# Altium schematic symbol library sme-pcb-energysolution-s01.SCHLIB: 41 symbols
Pins are listed as number, name and electrical type; pins without a type are passive.

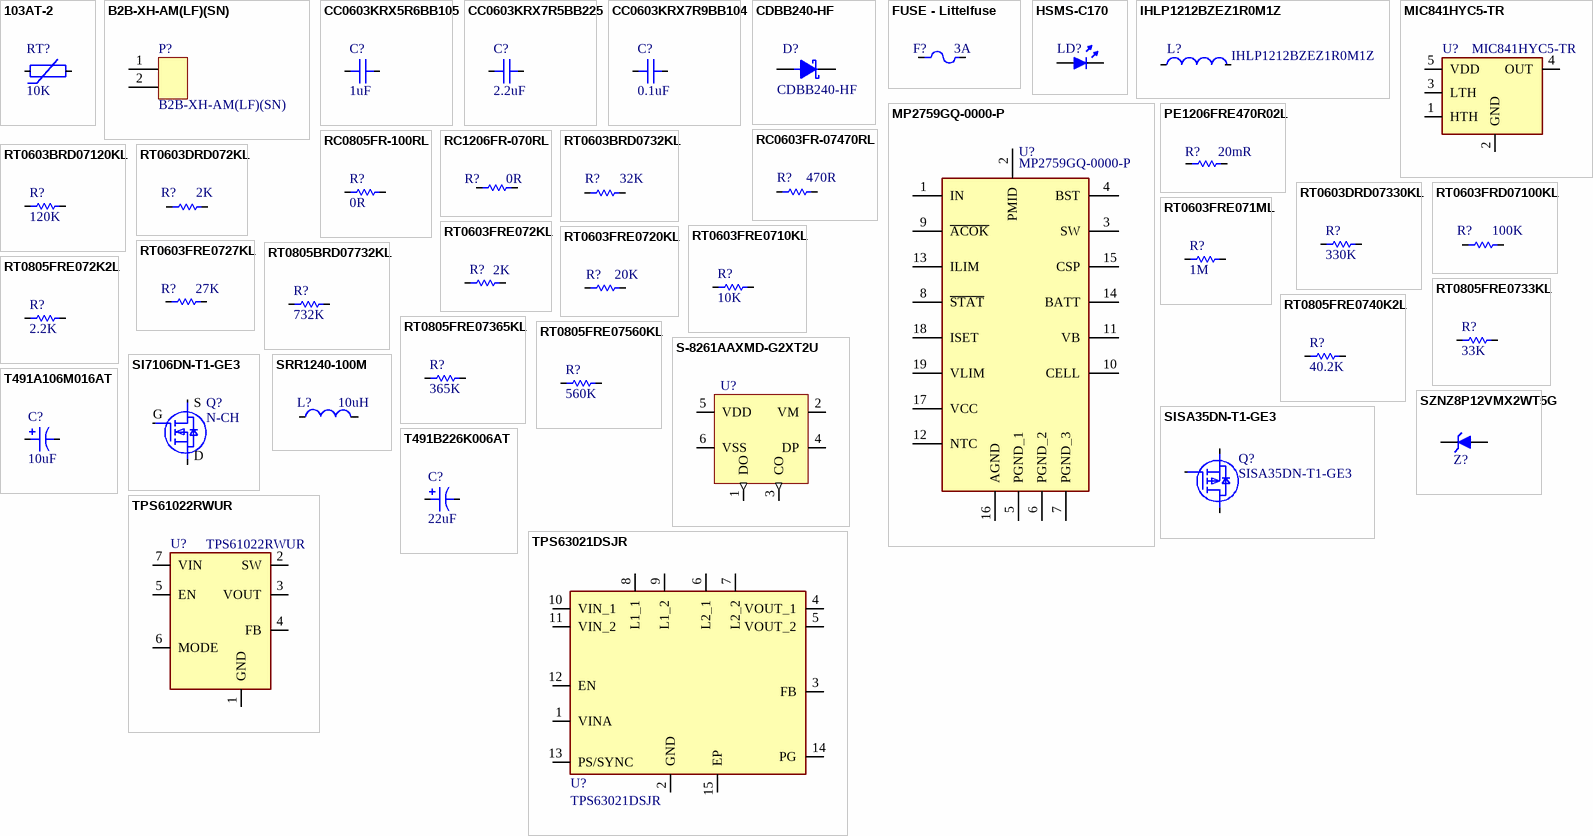
[diagram p0: symbols 103AT-2 to TPS63021DSJR]

## 103AT-2
designator RT?  Resistance: 10K  (hidden comment: 103AT-2)
NTC Thermistors 10kohm 1%; Manufacturer: Semitec; Package: 2 Pos; Type: thru-hole; Manufacturer Part Number: 103AT-2
footprint 103AT2
pins: 1, 2

## B2B-XH-AM(LF)(SN)
designator P?
CONN HEADER VERT 2POS 2.5MM
footprint 2Pin JST XH-2.54mm
pins: 1, 2

## CC0603KRX5R6BB105
designator C?  Capacitance: 1uF  (hidden comment: CC0603KRX5R6BB105)
Multilayer Ceramic Capacitors MLCC - SMD/SMT 10V 1uF X5R 0603 10% HI CV; Manufacturer: Yageo Group; Type: SMD; Package: 0603; Manufacturer Part Number: CC0603KRX5R6BB105
footprint C0603
pins: 1, 2

## CC0603KRX7R5BB225
designator C?  Capacitance: 2.2uF  (hidden comment: CC0603KRX7R5BB225)
Multilayer Ceramic Capacitors MLCC - SMD/SMT 6.3V 2.2uF X7R 0603 10% HI CV
footprint C0603
pins: 1, 2

## CC0603KRX7R9BB104
designator C?  Capacitance: 0.1uF  (hidden comment: CC0603KRX7R9BB104)
Multilayer Ceramic Capacitors MLCC - SMD/SMT 50 V 0.1uF X7R 0603 10%; Manufacturer: Yageo Group; Type: SMD; Package: 0603; Manufacturer Part Number: CC0603KRX7R9BB104
footprint C0603
pins: 1, 2

## CDBB240-HF
designator D?
Schottky Diode; Manufacturer_Name: Comchip Technology; Manufacturer: Comchip; Type: SMD; Datasheet Link: https://datasheet.datasheetarchive.com/originals/distributors/DKDS41/DSANUWW0021461.pdf; Height: 3.2mm; Manufacturer_Part_Number: CDBB240-HF; Mouser Part Number: 750-CDBB240-HF; Mouser Price/Stock: https://www.mouser.co.uk/ProductDetail/Comchip-Technology/CDBB240-HF?qs=%252BiOMRfgENTHvuVH5OF%252BwbA%3D%3D; Arrow Part Number: CDBB240-HF; Arrow Price/Stock: https://www.arrow.com/en/products/cdbb240-hf/comchip-technology?region=nac; Package: DO-214AA-2; Manufacturer Part Number: CDBB240-HF
footprint DO-214AA-2
pins: 1 A, 2 K

## FUSE - Littelfuse
designator F?  Fuse value: 3A  (hidden comment: FUSE - Littelfuse)
LITTELFUSE WICKMANN - 64600001003 - FUSE HOLDER, 5 X 20MM, PCB MOUNT; Material: Tin; Body Material: Polyamide; Color: Black; Illumination Type: Illuminated; Number of Circuits: 1; Voltage: 250V; Fuse Current: 6.3A; Type: thru-hole; Supplier 1: Digi-Key; Supplier Part Number 1: WK6244-ND; Manufacturer: Littelfuse Wickmann; Manufacturer Part Number: 64600001003; RoHS: Yes; Category: Fuse Holders; Stock 1: 1999; Pricing 1: 1=0.84000, 5=0.81200, 10=0.76000, 50=0.62880, 100=0.52400, 250=0.51092, 500=0.43230, 1000=0.37990, 5000=0.34060 (USD); Mount: Horizontal,PCB; Number of Pins: 2; Min Operating Temperature: -25°C; Max Operating Temperature: 70°C; Termination: PC Pin; Voltage Rating (DC): 250V; Voltage Rating (AC): 250V; Current Rating: 6.3A; Package Quantity: 1000; Voltage Rating: 250V; Number of Poles: 1; Packaging: Bulk; Length: 25.8mm; Depth: 5.5mm; Width: 12mm; Flammability Rating: UL94 V-1; REACH SVHC: Unknown; Lead Free: Lead Free; ComponentLink1URL: https://datasheet.ciiva.com/14119/gqlittelfuse-sicherungshalter-646-en-14119833.pdf?src-supplier=Distrelec; ComponentLink1Description: https://datasheet.ciiva.com/14119/gqlittelfuse-sicherungshalter-646-en-14119833.pdf?src-supplier=Distrelec; ComponentLink2URL: https://datasheet.ciiva.com/25620/0900766b81196eda-25620105.pdf?src-supplier=RSComponents; ComponentLink2Description: https://datasheet.ciiva.com/25620/0900766b81196eda-25620105.pdf?src-supplier=RSComponents; ComponentLink3URL: https://datasheet.ciiva.com/23593/43388-23593468.pdf?src-supplier=Newark; ComponentLink3Description: https://datasheet.ciiva.com/23593/43388-23593468.pdf?src-supplier=Newark; ComponentLink4URL: https://datasheet.ciiva.com/1270/1480080-1270114.pdf?src-supplier=Element14; ComponentLink4Description: https://datasheet.ciiva.com/1270/1480080-1270114.pdf?src-supplier=Element14; ComponentLink5URL: https://datasheet.ciiva.com/4480/646-648-640-lf-050901-4480295.pdf?src-supplier=Mouser; ComponentLink5Description: https://datasheet.ciiva.com/4480/646-648-640-lf-050901-4480295.pdf?src-supplier=Mouser; ComponentLink6URL: https://datasheet.ciiva.com/7660/646-648-640-lf-050901-7660727.pdf?src-supplier=Element14; ComponentLink6Description: https://datasheet.ciiva.com/7660/646-648-640-lf-050901-7660727.pdf?src-supplier=Element14; ComponentLink7URL: https://datasheet.ciiva.com/295/646-648-640-lf-050901-295754.pdf?src-supplier=Digi-Key; ComponentLink7Description: https://datasheet.ciiva.com/295/646-648-640-lf-050901-295754.pdf?src-supplier=Digi-Key; ComponentLink8URL: https://datasheet.ciiva.com/15187/getdatasheetpartid-57320-15187869.pdf?src-supplier=Verical; ComponentLink8Description: https://datasheet.ciiva.com/15187/getdatasheetpartid-57320-15187869.pdf?src-supplier=Verical; Package: 2 Pos
footprint Fuse 22.7mm - 2 Hole
pins: 1, 2

## HSMS-C170
designator LD?  (value not drawn)
Single Color LEDs Red Diffused 626nm 10mcd; Manufacturer: Broadcom; Type: SMD; Package: HSMS-C170; Manufacturer Part Number: HSMS-C170
footprint LED_0805_WHITE
pins: 1 A, 2 K

## IHLP1212BZEZ1R0M1Z
designator L?
1 H Shielded Molded Inductor 8.4 A 20mOhm Max 1212 (3030 Metric); Manufacturer_Name: Vishay; Geometry.Height: 2mm; Mouser Part Number: *; Mouser Price/Stock: *; Manufacturer_Part_Number: IHLP1212BZEZ1R0M1Z; Datasheet Link: https://www.vishay.com/docs/34671/ihlp1212-ez-1z.pdf
footprint INDPM3030X200N
pins: 1, 2

## MIC841HYC5-TR
designator U?
Microchip MIC841HYC5-TR Dual Comparator, Open Drain, Push-Pull O/P, 12us 1.5  5.5 V 5-Pin SC-70; Geometry.Height: 1.1mm; Mouser Part Number: 998-MIC841HYC5TR; Mouser Price/Stock: https://www.mouser.co.uk/ProductDetail/Microchip-Technology/MIC841HYC5-TR?qs=U6T8BxXiZAVOe5BH1VWqpQ%3D%3D; Manufacturer_Name: Microchip; Manufacturer_Part_Number: MIC841HYC5-TR; Datasheet Link: http://ww1.microchip.com/downloads/en/devicedoc/20005758a.pdf
footprint SOT65P210X110-5N
pins: 1 HTH, 2 GND, 3 LTH, 4 OUT, 5 VDD

## MP2759GQ-0000-P
designator U?
Integrated Circuit; Manufacturer_Name: Monolithic Power Systems (MPS); Manufacturer: Monolithic Power Systems; Datasheet Link: https://www.monolithicpower.cn/cn/documentview/productdocument/index/version/2/document_type/Datasheet/lang/en/sku/MP2759GQ/; Height: 1mm; Manufacturer_Part_Number: MP2759GQ-0000-P; Mouser Part Number: 946-MP2759GQ-0000-P; Mouser Price/Stock: https://www.mouser.co.uk/ProductDetail/Monolithic-Power-Systems-MPS/MP2759GQ-0000-P?qs=QNEnbhJQKvaMJpbzSVzajw%3D%3D; Package: QFN-19; Type: SMD; Manufacturer Part Number: MP2759GQ-0000-P
footprint QFN19_MP2759GQ0000P
pins: 1 IN, 2 PMID, 3 SW, 4 BST, 5 PGND_1, 6 PGND_2, 7 PGND_3, 8 ~{STAT}, 9 ~{ACOK}, 10 CELL, 11 VB, 12 NTC, 13 ILIM, 14 BATT, 15 CSP, 16 AGND, 17 VCC, 18 ISET, 19 VLIM

## PE1206FRE470R02L
designator R?  Resistance: 20mR  (hidden comment: PE1206FRE470R02L)
Current Sense Resistors - SMD 20 mOhms 1 W 50PPM/C 1206; Manufacturer: Yageo Group; Package: 1206; Type: SMD; Manufacturer Part Number: PE1206FRE470R02L
footprint RES_1206 (RESC3116X65N)
pins: 1, 2

## RC0603FR-07470RL
designator R?  Resistance: 470R  (hidden comment: RC0603FR-07470RL)
470 Ohms ±1% 0.1W, 1/10W Chip Resistor 0603 (1608 Metric) Moisture Resistant Thick Film; Case/Package: 0603
footprint RES_0603
pins: 1, 2

## RC0805FR-100RL
designator R?  Resistance: 0R  (hidden comment: RC0805FR-100RL)
Thick Film Resistors - SMD General Purpose Chip Resistor 0805, 0Ohms, 1%, 1/8W; Case/Package: 0805
footprint RES_0805
pins: 1, 2

## RC1206FR-070RL
designator R?  Resistance: 0R  (hidden comment: RC1206FR-070RL)
Thick Film Resistors - SMD 0 Ohms 250 mW 1206 1%; Manufacturer_Name: Yageo Group; Geometry.Height: 0.65mm; Mouser Part Number: 603-RC1206FR-070RL; Mouser Price/Stock: https://www.mouser.co.uk/ProductDetail/YAGEO/RC1206FR-070RL?qs=%2FbpERZPLKKvgeF8VBtNQLg%3D%3D; Manufacturer_Part_Number: RC1206FR-070RL; Datasheet Link: https://www.yageogroup.com/content/datasheet/asset/file/PYU-RC_GROUP_51_ROHS_L; Case/Package: 1206; Manufacturer: Yageo Group; Package: 1206; Type: SMD; Manufacturer Part Number: RC1206FR-070RL
footprint RES_1206 (RESC3116X65N)
pins: 1, 2

## RT0603BRD0732KL
designator R?  Resistance: 32K  (hidden comment: RT0603BRD0732KL)
Thin Film Resistors - SMD 1/10W 32K Ohms 0.1%; Manufacturer: Yageo Group; Case/Package: 0603; Package: 0603; Type: SMD; Manufacturer Part Number: RT0603BRD0732KL
footprint RES_0603 (RESC1608X55N)
pins: 1, 2

## RT0603BRD07120KL
designator R?  Resistance: 120K  (hidden comment: RT0603BRD07120KL)
Thin Film Resistors - SMD 1/10W 120K ohm .1% 25ppm
footprint RES_0603 (RESC1608X55N)
pins: 1, 2

## RT0603DRD072KL
designator R?  Resistance: 2K  (hidden comment: RT0603DRD072KL)
Thin Film Resistors - SMD 2K Ohm 0.5% 1/10W 75 Volts 25ppm; Case/Package: 0603
footprint RES_0603 (RESC1608X55N)
pins: 1, 2

## RT0603DRD07330KL
designator R?  Resistance: 330K  (hidden comment: RT0603DRD07330KL)
Thin Film Resistors - SMD 330K OHM .5% 25PPM 1/10W
footprint RES_0603 (RESC1608X55N)
pins: 1, 2

## RT0603FRD07100KL
designator R?  Resistance: 100K  (hidden comment: RT0603FRD07100KL)
Thin Film Resistors - SMD 100K OHM 1% 25PPM 1/10W; Manufacturer: Yageo Group; Case/Package: 0603; Package: 0603; Type: SMD; Manufacturer Part Number: RT0603FRD07100KL
footprint RES_0603 (RESC1608X55N)
pins: 1, 2

## RT0603FRE071ML
designator R?  Resistance: 1M  (hidden comment: RT0603FRE071ML)
Thin Film Resistors - SMD 1M OHM 1% 50PPM 1/10 W; Manufacturer: Yageo Group; Case/Package: 0603; Package: 0603; Type: SMD; Manufacturer Part Number: RT0603FRE071ML
footprint RES_0603 (RESC1608X55N)
pins: 1, 2

## RT0603FRE072KL
designator R?  Resistance: 2K  (hidden comment: RT0603FRE072KL)
Thin Film Resistors - SMD 1/10W 2K ohm 1% 50ppm; Case/Package: 0603
footprint RES_0603 (RESC1608X55N)
pins: 1, 2

## RT0603FRE0710KL
designator R?  Resistance: 10K  (hidden comment: RT0603FRE0710KL)
Thin Film Resistors - SMD 10K ohm 1% 1/10W; Manufacturer: Yageo Group; Case/Package: 0603; Package: 0603; Type: SMD; Manufacturer Part Number: RT0603FRE0710KL
footprint RES_0603 (RESC1608X55N)
pins: 1, 2

## RT0603FRE0720KL
designator R?  Resistance: 20K  (hidden comment: RT0603FRE0720KL)
Thin Film Resistors - SMD 1/10W 20K ohm 1% 50ppm; Manufacturer: Yageo Group; Case/Package: 0603; Package: 0603; Type: SMD; Manufacturer Part Number: RT0603FRE0720KL
footprint RES_0603 (RESC1608X55N)
pins: 1, 2

## RT0603FRE0727KL
designator R?  Resistance: 27K  (hidden comment: RT0603FRE0727KL)
Thin Film Resistors - SMD 1/10W 27K ohm 1% 50ppm; Manufacturer: Yageo Group; Case/Package: 0603; Package: 0603; Type: SMD; Manufacturer Part Number: RT0603FRE0727KL
footprint RES_0603 (RESC1608X55N)
pins: 1, 2

## RT0805BRD07732KL
designator R?  Resistance: 732K  (hidden comment: RT0805BRD07732KL)
Thin Film Resistors - SMD 732 kOhms 25PPM/C 125mW 0805 10%; Case/Package: 0805
footprint RES_0805
pins: 1, 2

## RT0805FRE072K2L
designator R?  Resistance: 2.2K  (hidden comment: RT0805FRE072K2L)
Thin Film Resistors - SMD 1/8W 2.2K ohm 1% 50p pm; Case/Package: 0805
footprint RES_0805
pins: 1, 2

## RT0805FRE0733KL
designator R?  Resistance: 33K  (hidden comment: RT0805FRE0733KL)
Thin Film Resistors - SMD 1/8W 33K ohm 1% 50ppm; Case/Package: 0805
footprint RES_0805
pins: 1, 2

## RT0805FRE0740K2L
designator R?  Resistance: 40.2K  (hidden comment: RT0805FRE0740K2L)
Thin Film Resistors - SMD 1/8W 40.2K ohm 1% 50ppm; Case/Package: 0805
footprint RES_0805
pins: 1, 2

## RT0805FRE07365KL
designator R?  Resistance: 365K  (hidden comment: RT0805FRE07365KL)
Thin Film Resistors - SMD 1/8W 365K ohm 1% 50ppm; Case/Package: 0805
footprint RES_0805
pins: 1, 2

## RT0805FRE07560KL
designator R?  Resistance: 560K  (hidden comment: RT0805FRE07560KL)
Thin Film Resistors - SMD 1/8W 560K ohm 1% 50ppm; Case/Package: 0805
footprint RES_0805
pins: 1, 2

## S-8261AAXMD-G2XT2U
designator U?  (value not drawn)
Battery Battery Protection IC Lithium Ion/Polymer SOT-23-6
footprint SOT95P275X135-6N
pins: 1 DO (out), 2 VM, 3 CO (out), 4 DP, 5 VDD, 6 VSS

## SI7106DN-T1-GE3
designator Q?, comment N-CH
MOSFET (N-Channel); Manufacturer_Name: Vishay; Manufacturer_Part_Number: SI7106DN-T1-GE3; Datasheet Link: https://www.arrow.com/en/products/si7106dn-t1-ge3/vishay; Height: 1.12mm; Mouser Part Number: 781-SI7106DN-T1-GE3; Mouser Price/Stock: https://www.mouser.co.uk/ProductDetail/Vishay-Semiconductors/SI7106DN-T1-GE3?qs=tWM4QuTcS4UXbO9qkz0xcQ%3D%3D; Arrow Part Number: SI7106DN-T1-GE3; Arrow Price/Stock: https://www.arrow.com/en/products/si7106dn-t1-ge3/vishay?region=nac; ComponentLink1Description: New link; ComponentLink1URL: https://www.mouser.com/ProductDetail/Vishay-Semiconductors/SI7106DN-T1-GE3?qs=tWM4QuTcS4UXbO9qkz0xcQ%3D%3D
footprint PowerPAK 1212-8-Pad
pins: 1 S, 2 G, 3 D

## SISA35DN-T1-GE3
designator Q?
MOSFET P-CHANNEL 30-V (D-S) PowerPAK 1212-8; Manufacturer_Name: Vishay; Geometry.Height: 1.17mm; Mouser Part Number: 78-SISA35DN-T1-GE3; Mouser Price/Stock: https://www.mouser.co.uk/ProductDetail/Vishay-Semiconductors/SISA35DN-T1-GE3?qs=xZ%2FP%252Ba9zWqbzg0tXMvfS4g%3D%3D; Manufacturer_Part_Number: SISA35DN-T1-GE3; Datasheet Link: https://www.vishay.com/docs/75831/sisa35dn.pdf
footprint PowerPAK 1212-8-Pad
pins: 1 S, 2 G, 3 D

## SRR1240-100M
designator L?, comment 10uH
Power Inductors - SMD 10uH 20% SMD 1240; Manufacturer_Name: Bourns; Manufacturer_Part_Number: SRR1240-100M; Manufacturer: Samsung Electro-Mechanics; Manufacturer Part Number: CIGT201210UHR47MNE; Datasheet Link: https://www.mouser.it/datasheet/2/54/SRR1240-1391459.pdf; Height: 4.5mm; Mouser Part Number: 652-SRR1240-100M; Mouser Price/Stock: https://www.mouser.co.uk/ProductDetail/Bourns/SRR1240-100M?qs=uD%2FoUDWqfvRyQbveYihOGw%3D%3D; Arrow Part Number: SRR1240-100M; Arrow Price/Stock: https://www.arrow.com/en/products/srr1240-100m/bourns?region=europe; ComponentLink1Description: New link; ComponentLink1URL: https://www.mouser.com/ProductDetail/Bourns/SRR1240-100M?qs=uD%2FoUDWqfvRyQbveYihOGw%3D%3D; Package: 0805; Type: SMD
footprint 5050 _H4mm (12.5mmx12.5mm)
pins: 1, 2

## SZNZ8P12VMX2WT5G
designator Z?  (value not drawn)
Zener Diode; Manufacturer_Name: onsemi; Datasheet Link: https://www.onsemi.com/pub/Collateral/NZ8PMX2-D.PDF; Height: 0.4mm; Manufacturer_Part_Number: SZNZ8P12VMX2WT5G
footprint SOD-923
pins: 1 K, 2 A

## T491A106M016AT
designator C?  Capacitance: 10uF  (hidden comment: T491A106M016AT)
KEMET - T491A106M016AT - Surface Mount Tantalum Capacitor, 10 µF, 16 V, 1206 [3216 Metric], T491 Series, ± 20%, -55 °C; Manufacturer: Yageo Group; Material: Ceramic; Tolerance: 10%; Dielectric: X5R; Voltage Rating (DC): 10V; ESR (Equivalent Series Resistance): 7R; Life (Hours): 2000Hour; Dissipation Factor: 8%; Leakage Current: 1.6uA; Polarity: Polar; Ripple Current: 104mA; Voltage: 16V; Type: SMD; Supplier 1: Digi-Key; Supplier Part Number 1: 1276-1192-1-ND; Manufacturer Part Number: T491A106M016AT; RoHS: Yes; Category: Ceramic Capacitors; Stock 1: 1573745; Pricing 1: 1=0.19000, 10=0.13200, 50=0.07940, 100=0.06700, 500=0.04588, 1000=0.04058 (USD); Mount: Surface Mount; Case/Package: 0603; Case Code (Metric): 1608; Case Code (Imperial): 0603; Contact Plating: Tin; Min Operating Temperature: -55°C; Max Operating Temperature: 85°C; Package Quantity: 1; Packaging: Tape and Reel; Voltage Rating: 10V; Length: 1.6mm; Height: 0.8mm; Thickness: 0.035inch; Depth: 0.8mm; Width: 0.031inch; Radiation Hardening: No; Lead Free: Lead Free; ComponentLink1URL: https://datasheet.ciiva.com/26877/getdatasheetpartid-359551-26877881.pdf?src-supplier=Verical; ComponentLink1Description: https://datasheet.ciiva.com/26877/getdatasheetpartid-359551-26877881.pdf?src-supplier=Verical; ComponentLink2URL: https://datasheet.ciiva.com/29198/457369-da-01-en-vs-kondensator-0603-29198790.pdf?src-supplier=Conrad; ComponentLink2Description: https://datasheet.ciiva.com/29198/457369-da-01-en-vs-kondensator-0603-29198790.pdf?src-supplier=Conrad; ComponentLink3URL: https://datasheet.ciiva.com/16200/cl05b104kq5nnnc-16200766.pdf?src-supplier=Future+Electronics; ComponentLink3Description: https://datasheet.ciiva.com/16200/cl05b104kq5nnnc-16200766.pdf?src-supplier=Future+Electronics; Supplier 2: Digi-Key; Supplier Part Number 2: 399-3687-1-ND; Stock 2: 249031; Pricing 2: 1=0.43000, 10=0.29900, 50=0.20940, 100=0.17950, 500=0.13464, 1000=0.11370 (USD); Dielectric Material: Tantalum; Features: General Purpose; Termination: SMD/SMT; Height - Seated (Max): 0.071inch; Lead Pitch: 1.2mm; REACH SVHC: No SVHC; ComponentLink4URL: https://datasheet.ciiva.com/27092/1573281-27092884.pdf?src-supplier=Jameco; ComponentLink4Description: https://datasheet.ciiva.com/27092/1573281-27092884.pdf?src-supplier=Jameco; ComponentLink5URL: https://datasheet.ciiva.com/7696/1732759-7696297.pdf?src-supplier=Element14; ComponentLink5Description: https://datasheet.ciiva.com/7696/1732759-7696297.pdf?src-supplier=Element14; ComponentLink6URL: https://datasheet.ciiva.com/7696/1854511-7696298.pdf?src-supplier=Element14; ComponentLink6Description: https://datasheet.ciiva.com/7696/1854511-7696298.pdf?src-supplier=Element14; ComponentLink7URL: https://datasheet.ciiva.com/257/kem-t2005-t491-257611.pdf?src-supplier=Digi-Key; ComponentLink7Description: https://datasheet.ciiva.com/257/kem-t2005-t491-257611.pdf?src-supplier=Digi-Key; ComponentLink8URL: https://datasheet.ciiva.com/5934/kem-t2005-t491-5934795.pdf?src-supplier=Farnell; ComponentLink8Description: https://datasheet.ciiva.com/5934/kem-t2005-t491-5934795.pdf?src-supplier=Farnell; ComponentLink9URL: https://datasheet.ciiva.com/257/kem-t2005-t491-257612.pdf?src-supplier=Digi-Key; ComponentLink9Description: https://datasheet.ciiva.com/257/kem-t2005-t491-257612.pdf?src-supplier=Digi-Key; ComponentLink10URL: https://datasheet.ciiva.com/257/kem-t2005-t491-257613.pdf?src-supplier=Digi-Key; ComponentLink10Description: https://datasheet.ciiva.com/257/kem-t2005-t491-257613.pdf?src-supplier=Digi-Key; ComponentLink11URL: https://datasheet.ciiva.com/12883/kem-t2005-t491-12883118.pdf?src-supplier=Mouser; ComponentLink11Description: https://datasheet.ciiva.com/12883/kem-t2005-t491-12883118.pdf?src-supplier=Mouser; ComponentLink12URL: https://datasheet.ciiva.com/14589/70095774-14589054.pdf?src-supplier=Allied+Electronics; ComponentLink12Description: https://datasheet.ciiva.com/14589/70095774-14589054.pdf?src-supplier=Allied+Electronics; ComponentLink13URL: https://datasheet.ciiva.com/14597/70095774-14597406.pdf?src-supplier=Allied+Electronics; ComponentLink13Description: https://datasheet.ciiva.com/14597/70095774-14597406.pdf?src-supplier=Allied+Electronics; Package: A Case
footprint CASE_A (T495A)
pins: 1, 2

## T491B226K006AT
designator C?  Capacitance: 22uF  (hidden comment: T491B226K006AT)
Tantalum Capacitors - Solid SMD 6.3V 22uF 1311 10% ESR=3.5ohms; Manufacturer: Yageo Group; Package: B Case; Type: SMD; Manufacturer Part Number: T491B226K006AT
footprint T491B / CASE_B
pins: 1, 2

## TPS61022RWUR
designator U?
8-A boost converter with 0.5-V ultra-low input voltage; Manufacturer_Name: Texas Instruments; Geometry.Height: 1mm; Mouser Part Number: 595-TPS61022RWUR; Mouser Price/Stock: https://www.mouser.co.uk/ProductDetail/Texas-Instruments/TPS61022RWUR?qs=vLWxofP3U2zlxrk4cD0iFA%3D%3D; Manufacturer_Part_Number: TPS61022RWUR; Datasheet Link: http://www.ti.com/lit/gpn/TPS61022
footprint 7-Pin VQFN w thermal
pins: 1 GND, 2 SW, 3 VOUT, 4 FB, 5 EN, 6 MODE, 7 VIN

## TPS63021DSJR
designator U?
High Efficiency Single Inductor Buck-Boost Converter with 4A Switch; Manufacturer_Name: Texas Instruments; Geometry.Height: 1mm; Mouser Part Number: 595-TPS63021DSJR; Mouser Price/Stock: https://www.mouser.co.uk/ProductDetail/Texas-Instruments/TPS63021DSJR?qs=C44r%252BX3hXgL5uT9uesn8fg%3D%3D; Manufacturer_Part_Number: TPS63021DSJR; Datasheet Link: http://www.ti.com/lit/gpn/tps63021; Manufacturer: Texas Instruments; Package: VSON-14; Type: SMD; Manufacturer Part Number: TPS63021DSJR
footprint VSON-14
pins: 1 VINA, 2 GND, 3 FB, 4 VOUT_1, 5 VOUT_2, 6 L2_1, 7 L2_2, 8 L1_1, 9 L1_2, 10 VIN_1, 11 VIN_2, 12 EN, 13 PS/SYNC, 14 PG, 15 EP

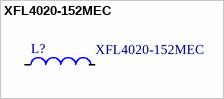
[diagram p1: symbol XFL4020-152MEC]

## XFL4020-152MEC
designator L?
COILCRAFT - XFL4020-152MEC - Power Inductor (SMD), 1.5 H, 9.1 A, Shielded, 4.1 A, XFL4020; Geometry.Height: 2.1mm; Mouser Part Number: 994-XFL4020-152MEC; Mouser Price/Stock: https://www.mouser.co.uk/ProductDetail/Coilcraft/XFL4020-152MEC?qs=zCSbvcPd3pak5QYA2uujRA%3D%3D; Manufacturer_Name: COILCRAFT; Manufacturer_Part_Number: XFL4020-152MEC; Datasheet Link: https://www.coilcraft.com/getmedia/50632d43-da1b-4cdb-8ab4-3029cab51df3/xfl4020.pdf; Manufacturer: Coilcraft; Package: 1616; Type: SMD; Manufacturer Part Number: XFL4020-152MEC
footprint XFL4020152MEC
pins: 1, 2